# Altium footprint library 136B.PcbLib: 10 footprints
Each footprint in its own frame and in the unit in brackets; x right, y up, seen from the top. Pads: shape width x height; smd on the part's side, far side on the other; paste and mask are expansions set on the pad; w line width, h text height; cw(c..) or ccw(c..) is an arc to the next point about the centre after c.
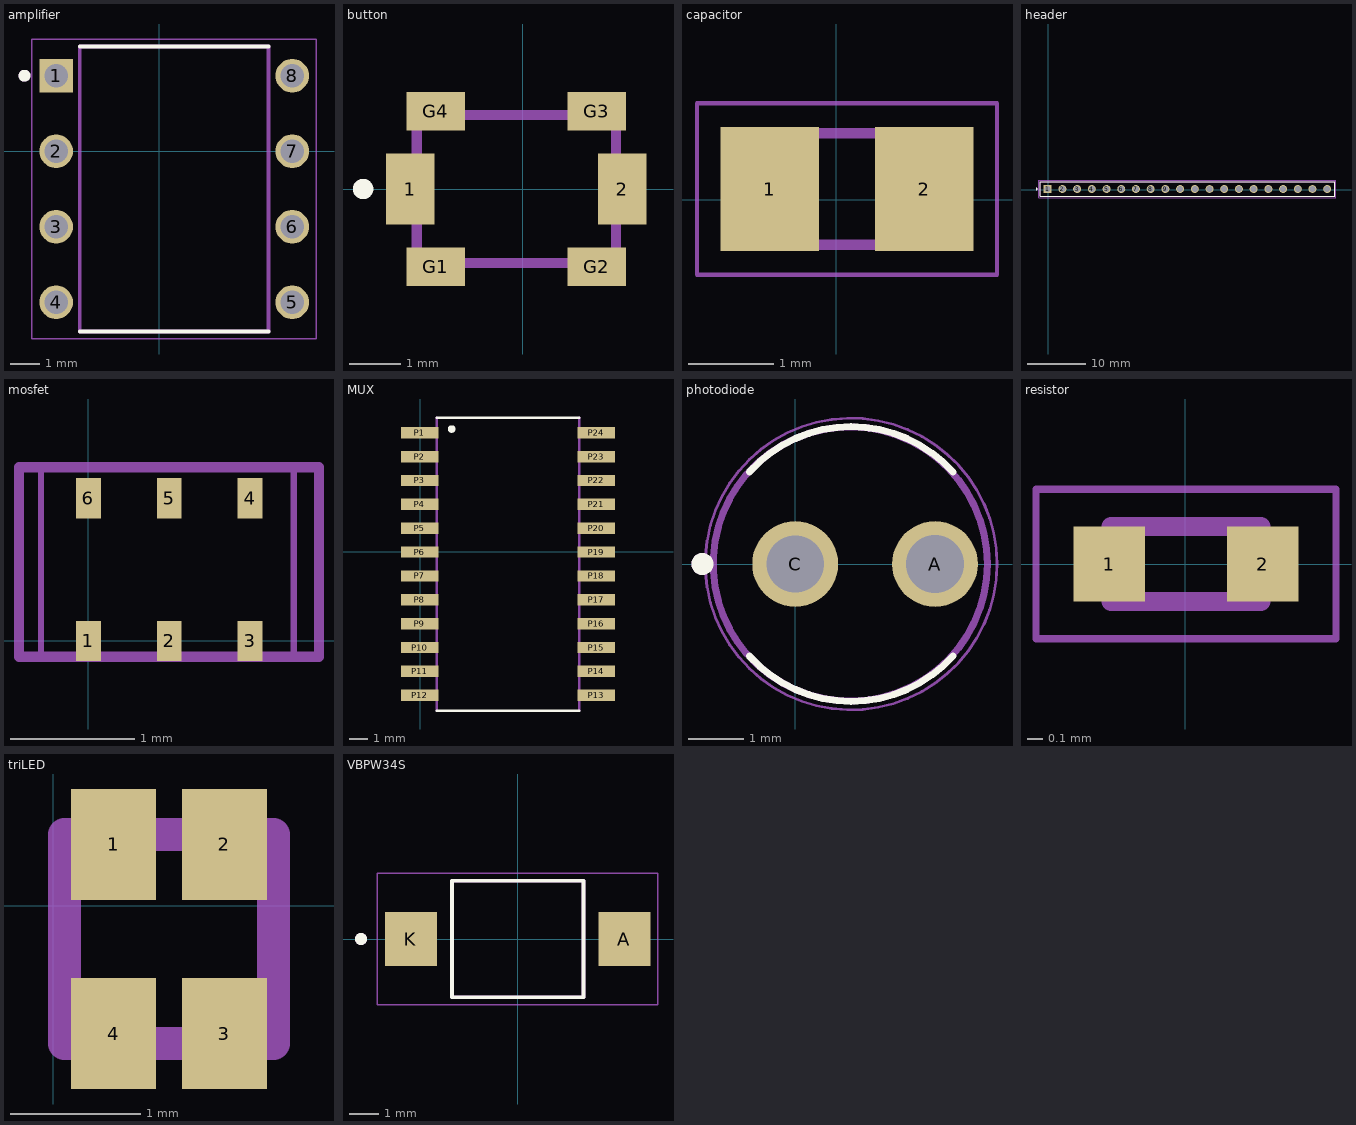
[diagram p0: the footprints below, top view; thin cyan lines are the x and y axes]

## amplifier [mm]
pads (8):
  rect 1.13x1.13 hole 0.78: 1(-3.462,2.54)
  round 1.13 hole 0.78: 2(-3.462,0) 3(-3.462,-2.54) 4(-3.462,-5.08) 5(4.478,-5.08) 6(4.478,-2.54) 7(4.478,0) 8(4.478,2.54)
Top Overlay:
  circle w0.2: c-4.527,2.54 r0.1
  lines w0.127: -2.667,-6.065 3.683,-6.065 ; -2.667,3.525 3.683,3.525
3D Bodies:
  circle w0.2: c-4.527,2.54 r0.1
  lines w0.127: -2.667,-6.065 -2.667,3.525 3.683,3.525 3.683,-6.065 -2.667,-6.065
Mechanical:
  lines w0.05: -4.277,-6.315 -4.277,3.775 5.293,3.775 5.293,-6.315 -4.277,-6.315

## button [mm]
pads (6):
  rect 0.95x1.4 smd: 1(-2.202,0) 2(1.948,0)
  rect 1.15x0.75 smd: G1(-1.702,-1.525) G2(1.448,-1.525) G3(1.448,1.525) G4(-1.702,1.525)
Top Overlay:
  lines w0.2: -3.127,-0.1 ccw(c-3.127,0) -3.127,0.1 ccw(c-3.127,0) -3.127,-0.1
Mechanical:
  lines w0.2: -2.077,-1.45 -2.077,1.45 1.823,1.45 1.823,-1.45 -2.077,-1.45
3D body "PTS820J25MSMTRLFS.stp": height 5.8, standoff -4.65, extent -10.127,-3.376 9.873,3.376

## capacitor [mm]
pads (2):
  rect 1.15x1.45 smd: 1(-0.773,0.127) 2(1.027,0.127)
3D Bodies:
  lines w0.127: -0.873,-0.523 -0.873,0.777 1.127,0.777 1.127,-0.523 -0.873,-0.523
Mechanical:
  lines w0.05: -1.623,-0.873 -1.623,1.127 1.877,1.127 1.877,-0.873 -1.623,-0.873
3D body "step_temp.STEP": height 0.94, standoff 0, extent -0.878,-0.498 1.132,0.752

## header [mm]
pads (20):
  rect 1.39x1.39 hole 1.04: 1(-0.084,0.134)
  round 1.39 hole 1.04: 2(2.456,0.134) 3(4.996,0.134) 4(7.536,0.134) 5(10.076,0.134) 6(12.616,0.134) 7(15.156,0.134) 8(17.696,0.134) 9(20.236,0.134) 10(22.776,0.134) 11(25.316,0.134) 12(27.856,0.134) 13(30.396,0.134) 14(32.936,0.134) 15(35.476,0.134) 16(38.016,0.134) 17(40.556,0.134) 18(43.096,0.134) 19(45.636,0.134) 20(48.176,0.134)
Top Overlay:
  circle w0.2: c-2.004,0.134 r0.1
  lines w0.127: -1.354,-1.116 -1.354,1.384 49.446,1.384 49.446,-1.116 -1.354,-1.116
3D Bodies:
  circle w0.2: c-2.004,0.134 r0.1
  lines w0.127: -1.354,-1.116 -1.354,1.384 49.446,1.384 49.446,-1.116 ; -1.354,-1.116 49.446,-1.116 ; -1.354,-1.116 49.446,-1.116
Mechanical:
  lines w0.05: -1.604,-1.366 -1.604,1.634 49.696,1.634 49.696,-1.366 -1.604,-1.366

## mosfet [mm]
pads (6):
  rect 0.2x0.325 smd: 1(0,0) 2(0.65,0) 3(1.3,0) 4(1.3,1.148) 5(0.65,1.148) 6(0,1.148)
3D Bodies:
  lines w0.081: -0.559,-0.127 1.854,-0.127 1.854,1.397 -0.559,1.397 -0.559,-0.127
Mechanical:
  lines w0.05: 1.651,1.397 1.651,-0.127 -0.381,-0.127 -0.381,1.397 1.651,1.4
3D body: height 1, standoff 0, extent -0.572,-0.127 1.841,1.397

## MUX [mm]
pads (24):
  rect 2x0.6 smd: P1(-0.025,6.325) P2(-0.025,5.055) P3(-0.025,3.785) P4(-0.025,2.515) P5(-0.025,1.245) P6(-0.025,-0.025) P7(-0.025,-1.295) P8(-0.025,-2.565) P9(-0.025,-3.835) P10(-0.025,-5.105) P11(-0.025,-6.375) P12(-0.025,-7.645) P13(9.375,-7.645) P14(9.375,-6.375) P15(9.375,-5.105) P16(9.375,-3.835) P17(9.375,-2.565) P18(9.375,-1.295) P19(9.375,-0.025) P20(9.375,1.245) P21(9.375,2.515) P22(9.375,3.785) P23(9.375,5.055) P24(9.375,6.325)
Top Overlay:
  circle w0.2: c1.675,6.525 r0.1
  lines w0.127: 0.875,-8.475 8.475,-8.475 ; 0.875,7.125 8.475,7.125
Mechanical 4:
  lines w0.127: 0.875,-8.475 0.875,7.125 0.875,-8.475 ; 8.475,-8.475 8.475,7.125 8.475,-8.475

## photodiode [mm]
pads (2):
  round 1.56 hole 1.05: A(2.54,0)
  round 1.56 hole 1.04: C(0,0)
Top Overlay:
  circle w0.2: c-1.684,0 r0.1
  lines w0.127: -0.834,-1.672 ccw(c1.016,-0.006) 2.866,-1.672 ; -0.834,1.672 cw(c1.016,0.006) 2.866,1.672
3D Bodies:
  circle w0.128: c1,0 r2.49
  circle w0.2: c-1.684,0 r0.1
Mechanical:
  circle w0.05: c1.016,0 r2.65

## resistor [mm]
pads (2):
  rect 0.475x0.5 smd: 1(-0.508,0) 2(0.516,0)
3D Bodies:
  lines w0.127: -0.496,-0.25 -0.496,0.25 0.504,0.25 0.504,-0.25 -0.496,-0.25
Mechanical:
  lines w0.05: -0.996,-0.5 -0.996,0.5 1.004,0.5 1.004,-0.5 -0.996,-0.5

## triLED [mm]
pads (4):
  rect 0.65x0.85 smd: 1(0.464,0.471) 2(1.314,0.471) 3(1.314,-0.979) 4(0.464,-0.979)
Mechanical:
  lines w0.254: 0.089,-1.054 0.089,0.546 1.689,0.546 1.689,-1.054 0.089,-1.054
3D body "LTST-C19HE1WT.stp": height 5.8, standoff -4.65, extent -9.111,-3.63 10.889,3.122

## VBPW34S [mm]
pads (2):
  rect 1.75x1.8 smd: A(3.575,0) K(-3.575,0)
Top Overlay:
  circle w0.2: c-5.25,0 r0.1
  lines w0.127: -2.2,-1.95 2.2,-1.95 2.2,1.95 -2.2,1.95 -2.2,-1.95
3D Bodies:
  circle w0.2: c-5.25,0 r0.1
  lines w0.127: -2.2,-1.95 -2.2,1.95 2.2,1.95 2.2,-1.95 -2.2,-1.95
  text "phtodiode" at -4.355,2.204 h0.4
Mechanical:
  lines w0.05: -4.7,-2.2 -4.7,2.2 4.7,2.2 4.7,-2.2 -4.7,-2.2
3D body: height 1.2, standoff 0, extent -4.699,-2.184 4.674,2.21